# Altium footprint library Transistors_ICs.PcbLib: 47 footprints (part 3 of 3)
Each footprint in its own frame and in the unit in brackets; x right, y up, seen from the top. Pads: shape width x height; smd on the part's side, far side on the other; paste and mask are expansions set on the pad; w line width, h text height; cw(c..) or ccw(c..) is an arc to the next point about the centre after c.
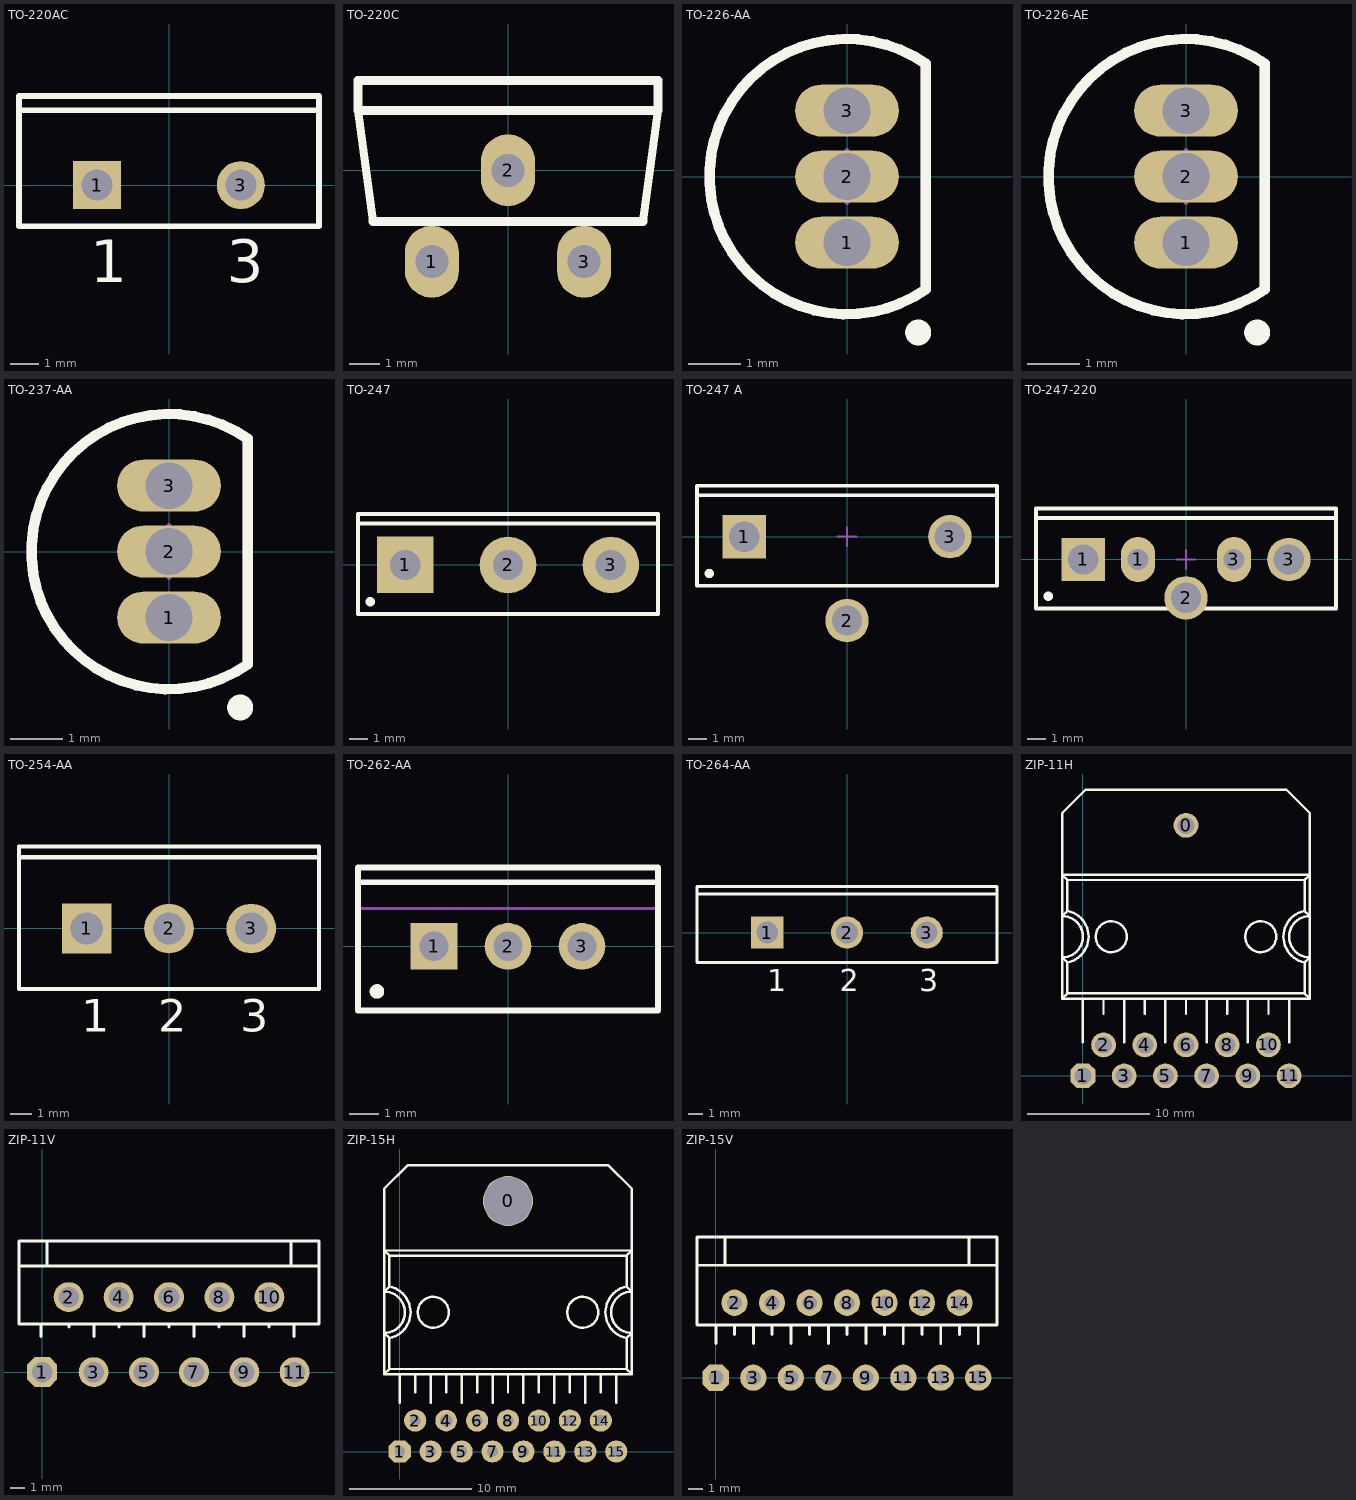
[diagram p2: the footprints below, top view; thin cyan lines are the x and y axes]

## TO-220AC [mm] "TO, Thru-Hole, Vertical, Heatsink Mounted; 3 In-Line Leads (1 Absent); Pitch 2.54 mm"
height 19.2
pads (2):
  rect 1.7x1.7 hole 1.1: 1(-2.54,0)
  round 1.7 hole 1.1: 3(2.54,0)
Top Overlay:
  lines w0.2: -5.3,2.65 5.3,2.65 ; -5.3,-1.45 5.3,-1.45 5.3,3.15 -5.3,3.15 -5.3,-1.45
  text "1" at -2.79,-3.425 h1.5
  text "3" at 2.04,-3.425 h1.5

## TO-220C [mm]
height 19
pads (3):
  oval 1.8x2.4 hole 1.1: 1(-2.54,-3.048) 2(0,0) 3(2.54,-3.048)
Top Overlay:
  lines w0.254: -5,2 -4.5,-1.7 ; 4.5,-1.7 5,2
  lines w0.3: -4.5,-1.7 4.5,-1.7 ; -5,2 5,2 5,3 -5,3 -5,2

## TO-226-AA [mm] "TO, Flat Index; 3 In-Line, Axial Leads; Body Dia. 4.8mm; Leads 0.55 x 0.51 mm (max)"
height 5.33
pads (3):
  oval 2x1 hole 0.9: 1(0,-1.27) 2(0,0) 3(0,1.27)
Top Overlay:
  circle w0.25: c1.371,-3.003 r0.125
  lines w0.2: 1.52,-2.171 cw(c0,0) 1.52,2.171 1.52,-2.171
Mechanical 13:
  lines w0.2: 1.52,-2.171 cw(c0,0) 1.52,2.171 1.52,-2.171
Mechanical 15:
  lines w0.1: -0.5,0 0.5,0 ; 0,-0.5 0,0.5
3D body: height 5.33, standoff 0, extent -2.651,-2.661 1.52,2.661

## TO-226-AE [mm] "TO, Flat Index; 3 In-Line, Axial Leads; Body Dia. 4.8mm; Leads 0.55 x 0.51 mm (max)"
height 7.87
pads (3):
  oval 2x1 hole 0.9: 1(0,-1.27) 2(0,0) 3(0,1.27)
Top Overlay:
  circle w0.25: c1.371,-3.003 r0.125
  lines w0.2: 1.52,-2.171 cw(c0,0) 1.52,2.171 1.52,-2.171
Mechanical 13:
  lines w0.2: 1.52,-2.171 cw(c0,0) 1.52,2.171 1.52,-2.171
Mechanical 15:
  lines w0.1: -0.5,0 0.5,0 ; 0,-0.5 0,0.5
3D body: height 7.87, standoff 0, extent -2.651,-2.661 1.52,2.661

## TO-237-AA [mm] "TO, Flat Index; 3 In-Line, Axial Leads; Body Dia. 4.8mm; Lead Dia. 0.56 mm (max)"
height 7.11
pads (3):
  oval 2x1 hole 0.9: 1(0,-1.27) 2(0,0) 3(0,1.27)
Top Overlay:
  circle w0.25: c1.371,-3.003 r0.125
  lines w0.2: 1.52,-2.171 cw(c0,0) 1.52,2.171 1.52,-2.171
Mechanical 13:
  lines w0.2: 1.52,-2.171 cw(c0,0) 1.52,2.171 1.52,-2.171
Mechanical 15:
  lines w0.1: -0.5,0 0.5,0 ; 0,-0.5 0,0.5
3D body: height 7.11, standoff 0, extent -2.651,-2.661 1.52,2.661

## TO-247 [mm] "SIP with Mounting Hole; 3 Leads; Body 20 x 15.6 x 5 mm (typ); Pitch 5.45 mm"
height 24.6
pads (3):
  rect 3x3 hole 1.6: 1(-5.45,0)
  round 3 hole 1.6: 2(0,0) 3(5.45,0)
Top Overlay:
  circle w0.25: c-7.3,-1.95 r0.125
  lines w0.2: -7.95,2.2 7.95,2.2 ; -7.95,-2.6 7.95,-2.6 7.95,2.7 -7.95,2.7 -7.95,-2.6
Mechanical 13:
  lines w0.1: -7.95,-2.6 7.95,-2.6 7.95,2.7 -7.95,2.7 -7.95,-2.6
Mechanical 15:
  lines w0.1: -0.5,0 0.5,0 ; 0,-0.5 0,0.5
3D body: height 24.6, standoff 3.7, extent -7.949,-2.599 7.949,2.699

## TO-247 A [mm] "SIP with Mounting Hole; 3 Leads; Body 20 x 15.6 x 5 mm (typ); Pitch 5.45 mm"
height 24.6
pads (3):
  rect 2.3x2.3 hole 1.6: 1(-5.45,0)
  round 2.3 hole 1.6: 2(0,-4.445) 3(5.45,0)
Top Overlay:
  circle w0.25: c-7.3,-1.95 r0.125
  lines w0.2: -7.95,2.2 7.95,2.2 ; -7.95,-2.6 7.95,-2.6 7.95,2.7 -7.95,2.7 -7.95,-2.6
Mechanical 13:
  lines w0.1: -7.95,-2.6 7.95,-2.6 7.95,2.7 -7.95,2.7 -7.95,-2.6
Mechanical 15:
  lines w0.1: -0.5,0 0.5,0 ; 0,-0.5 0,0.5
3D body: height 24.6, standoff 3.7, extent -7.949,-2.599 7.949,2.699

## TO-247-220 [mm] "SIP with Mounting Hole; 3 Leads; Body 20 x 15.6 x 5 mm (typ); Pitch 5.45 mm"
height 24.6
pads (5):
  rect 2.3x2.3 hole 1.6: 1(-5.45,0)
  oval 1.8x2.4 hole 1.1: 1(-2.54,0) 3(2.54,0)
  round 2.3 hole 1.6: 2(0,-2.032) 3(5.45,0)
Top Overlay:
  circle w0.25: c-7.3,-1.95 r0.125
  lines w0.2: -7.95,2.2 7.95,2.2 ; -7.95,-2.6 -7.95,2.7 7.95,2.7 7.95,-2.6 -7.95,-2.6
Mechanical 13:
  lines w0.1: -7.95,-2.6 -7.95,2.7 7.95,2.7 7.95,-2.6 -7.95,-2.6
Mechanical 15:
  lines w0.1: -0.5,0 0.5,0 ; 0,-0.5 0,0.5
3D body: height 24.6, standoff 3.7, extent -7.949,-2.599 7.949,2.699

## TO-254-AA [mm] "TO, Thru-Hole, Vertical, Heatsink Mounted; 3 In-Line Leads; Pitch 3.81 mm"
height 20.3
pads (3):
  rect 2.3x2.3 hole 1.5: 1(-3.81,0)
  round 2.3 hole 1.5: 2(0,0) 3(3.81,0)
Top Overlay:
  lines w0.2: -6.95,3.3 6.95,3.3 ; -6.95,-2.8 -6.95,3.8 6.95,3.8 6.95,-2.8 -6.95,-2.8
  text "3" at 3.31,-4.775 h1.5
  text "2" at -0.5,-4.775 h1.5
  text "1" at -4.06,-4.775 h1.5

## TO-262-AA [mm] "TO, Thru-Hole, Vertical, Heatsink Mounted; 3 In-Line Leads; Pitch 2.54 mm"
height 19.7
pads (3):
  rect 1.6x1.6 hole 1: 1(-2.54,0)
  round 1.6 hole 1: 2(0,0) 3(2.54,0)
Top Overlay:
  circle w0.25: c-4.5,-1.55 r0.125
  lines w0.2: -5.15,2.2 5.15,2.2 ; -5.15,-2.2 -5.15,2.7 5.15,2.7 5.15,-2.2 -5.15,-2.2
Mechanical 13:
  lines w0.1: -5.15,1.3 5.15,1.3 ; -5.15,-2.2 -5.15,2.7 5.15,2.7 5.15,-2.2 -5.15,-2.2
Mechanical 15:
  lines w0.1: -0.5,0 0.5,0 ; 0,-0.5 0,0.5
3D body: height 19.7, standoff 13.7, extent -5.149,1.301 5.149,2.699
3D body: height 13.7, standoff 2.8, extent -5.2,-2.25 5.2,2.75

## TO-264-AA [mm] "SIP with Mounting Hole; 3 Leads; Body 26 x 20 x 5 mm (typ); Pitch 5.45 mm"
height 29
pads (3):
  rect 2.2x2.2 hole 1.5: 1(-5.45,0)
  round 2.2 hole 1.5: 2(0,0) 3(5.45,0)
Top Overlay:
  lines w0.2: -10.25,2.65 10.25,2.65 ; -10.25,-2.05 10.25,-2.05 10.25,3.15 -10.25,3.15 -10.25,-2.05
  text "1" at -5.45,-4.025 h1.5
  text "2" at -0.508,-4.025 h1.5
  text "3" at 4.942,-4.025 h1.5
Mechanical 15:
  lines w0.1: -0.5,0 0.5,0 ; 0,-0.5 0,0.5

## ZIP-11H [mil]
pads (12):
  round 80 hole 55: 0(333.33,810) 2(66.67,100) 3(133.33,0) 4(200,100) 5(266.67,0) 6(333.33,100) 7(400,0) 8(466.67,100) 9(533.33,0) 10(600,100) 11(666.67,0)
  oct 80x80 hole 55: 1(0,0)
Top Overlay:
  circle w8: c575,450 r50
  circle w8: c91.67,450 r50
  lines w7.87: -66.67,383.33 -50,366.67 -50,266.67 ; -66.67,516.67 -50,533.33 -50,633.33 ; 0,108.33 0,250 ; 66.67,200 66.67,250 ; 133.33,108.33 133.33,250 ; 200,200 200,250 ; 266.67,108.33 266.67,250 ; 333.33,200 333.33,250 ; 400,108.33 400,250 ; 466.67,200 466.67,250 ; 533.33,108.33 533.33,250 ; 600,200 600,250 ; 666.67,108.33 666.67,250 ; 733.33,383.33 716.67,366.67 716.67,266.67 ; 733.33,516.67 716.67,533.33 716.67,633.33 ; -66.67,250 -50,266.67 ; -66.67,250 733.33,250 ; -66.67,250 -66.67,650 ; -66.67,650 -50,633.33 ; -66.67,650 733.33,650 ; -66.67,650 -66.67,850 8.33,925 658.33,925 733.33,850 733.33,650 ; -50,266.67 716.67,266.67 ; -50,633.33 716.67,633.33 ; 716.67,266.67 733.33,250 ; 716.67,633.33 733.33,650 ; 733.33,250 733.33,650
  lines w8: -66.67,383.33 ccw(c-66.67,450) -66.67,516.67 ; -50.45,366.56 ccw(c-66.67,450) -50.45,533.44 ; 717.11,366.56 cw(c733.33,450) 717.11,533.44 ; 733.33,383.33 cw(c733.33,450) 733.33,516.67

## ZIP-11V [mil]
pads (11):
  oct 80x80 hole 55: 1(0,0)
  round 80 hole 55: 2(70.83,200) 3(137.5,0) 4(204.17,200) 5(271.67,0) 6(338.33,200) 7(405,0) 8(472.5,200) 9(539.17,0) 10(605.83,200) 11(673.33,0)
Top Overlay:
  lines w7.87: -3.33,94.89 -3.33,128.23 ; 13.33,283.33 13.33,350 ; 71.67,119.89 71.67,128.23 ; 138.33,94.89 138.33,128.23 ; 205,119.89 205,128.23 ; 271.67,94.89 271.67,128.23 ; 338.33,119.89 338.33,128.23 ; 405,94.89 405,128.23 ; 471.67,119.89 471.67,128.23 ; 538.33,94.89 538.33,128.23 ; 605,119.89 605,128.23 ; 663.33,283.33 663.33,350 ; 671.67,94.89 671.67,128.23 ; -61.67,283.33 -61.67,128.23 738.33,128.23 738.33,283.33 ; -61.67,283.33 738.33,283.33 ; -61.67,283.33 -61.67,350 738.33,350 738.33,283.33

## ZIP-15H [mil]
pads (16):
  round 161.67 hole 154.17: 0(350,810)
  oct 71.67x71.67 hole 35: 1(0,0)
  round 71.67 hole 35: 2(50,100) 3(100,0) 5(200,0) 6(250,100) 7(300,0) 8(350,100) 9(400,0) 10(450,100) 11(500,0) 12(550,100) 13(600,0) 14(650,100) 15(700,0)
  round 70 hole 40: 4(150,100)
Top Overlay:
  circle w8: c591.67,450 r50
  circle w8: c108.33,450 r50
  lines w7.87: -50,383.33 -33.33,366.67 -33.33,266.67 ; -50,516.67 -33.33,533.33 -33.33,633.33 ; 0,157.48 0,250 ; 50,191.67 50,250 ; 100,157.48 100,250 ; 150,191.67 150,250 ; 200,157.48 200,250 ; 250,191.67 250,250 ; 300,157.48 300,250 ; 350,191.67 350,250 ; 400,157.48 400,250 ; 450,191.67 450,250 ; 500,157.48 500,250 ; 550,191.67 550,250 ; 600,157.48 600,250 ; 650,191.67 650,250 ; 700,157.48 700,250 ; 750,383.33 733.33,366.67 733.33,266.67 ; 750,516.67 733.33,533.33 733.33,633.33 ; -50,250 -33.33,266.67 ; -50,250 750,250 ; -50,250 -50,650 ; -50,650 -33.33,633.33 ; -50,650 750,650 ; -50,650 -50,850 25,925 675,925 750,850 750,650 ; -33.33,266.67 733.33,266.67 ; -33.33,633.33 733.33,633.33 ; 733.33,266.67 750,250 ; 733.33,633.33 750,650 ; 750,250 750,650
  lines w8: -50,383.33 ccw(c-50,450) -50,516.67 ; -33.78,366.56 ccw(c-50,450) -33.78,533.44 ; 733.78,366.56 cw(c750,450) 733.78,533.44 ; 750,383.33 cw(c750,450) 750,516.67

## ZIP-15V [mil]
pads (15):
  oct 70x70 hole 40: 1(0,0)
  round 70 hole 40: 2(50,200) 3(100,0) 4(150,200) 5(200,0) 6(250,200) 7(300,0) 8(350,200) 9(400,0) 10(450,200) 11(500,0) 12(550,200) 13(600,0) 14(650,200) 15(700,0)
Top Overlay:
  lines w7.87: -50.16,140.91 -50,283.33 -50,375 750,375 750,300 ; -50,140.91 750,140.91 750,300 ; -50,300 750,300 ; 0,90.91 0,140.91 ; 25,300 25,375 ; 50,115.91 50,140.91 ; 100,90.91 100,140.91 ; 150,115.91 150,140.91 ; 200,90.91 200,140.91 ; 250,115.91 250,140.91 ; 300,90.91 300,140.91 ; 350,115.91 350,140.91 ; 400,90.91 400,140.91 ; 450,115.91 450,140.91 ; 500,90.91 500,140.91 ; 550,115.91 550,140.91 ; 600,90.91 600,140.91 ; 650,115.91 650,140.91 ; 675,300 675,375 ; 700,90.91 700,140.91